# Altium schematic symbol library BQ24650RVAR.SchLib: 1 symbol
Pins are listed as number, name and electrical type; pins without a type are passive.

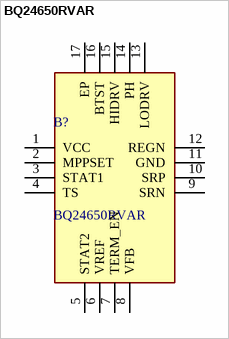
[diagram p0: symbol BQ24650RVAR]

## BQ24650RVAR
designator B?
High Efficiency Synchronous Switch-Mode Charger Controller  Solar Battery Charger; Manufacturer_Name: Texas Instruments; Geometry.Height: 1mm; Mouser Part Number: 595-BQ24650RVAR; Mouser Price/Stock: https://www.mouser.co.uk/ProductDetail/Texas-Instruments/BQ24650RVAR?qs=0zjllh%252Bnl7YoFsOK3aOUFA%3D%3D; Manufacturer_Part_Number: BQ24650RVAR; Datasheet Link: http://www.ti.com/lit/gpn/BQ24650
footprint QFN50P350X350X100-17N-D
pins: 1 VCC, 2 MPPSET, 3 STAT1, 4 TS, 5 STAT2, 6 VREF, 7 TERM_EN, 8 VFB, 9 SRN, 10 SRP, 11 GND, 12 REGN, 13 LODRV, 14 PH, 15 HIDRV, 16 BTST, 17 EP